# EAGLE library part BU4551B (library rohm-custom)
IC MUX/DEMUX QUAD 1X2
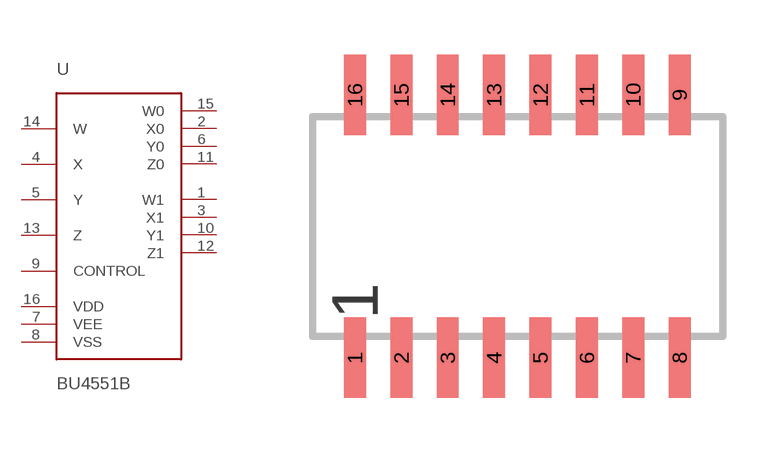
[diagram p0: symbol with the pads of SOP16; footprint SOP16]

Designator prefix -

## BU4551B  [SOP16]
1  W1
2  X0
3  X1
4  X
5  Y
6  Y0
7  VEE
8  VSS
9  CONTROL
10  Y1
11  Z0
12  Z1
13  Z
14  W
15  W0
16  VDD

## Footprint SOP16 (pad centres in mm)
SMALL OUTLINE PACKAGE
smd 0.6 x 2.2: 1 -4.445,-3.6; 2 -3.175,-3.6; 3 -1.905,-3.6; 4 -0.635,-3.6; 5 0.635,-3.6; 6 1.905,-3.6; 7 3.175,-3.6; 8 4.445,-3.6; 9 4.445,3.6; 10 3.175,3.6; 11 1.905,3.6; 12 0.635,3.6; 13 -0.635,3.6; 14 -1.905,3.6; 15 -3.175,3.6; 16 -4.445,3.6